# EAGLE library part ESD_5 (library GaN_Fet_ESC_V0.2)
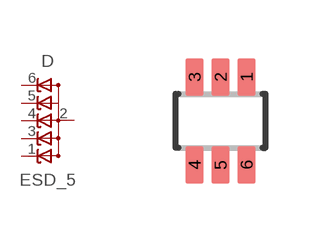
[diagram p1: symbol with the pads of SC-70-6; footprint SC-70-6]

Designator prefix D

## ESD_5  [SC-70-6]
1  1  pas
2  2  pas
3  3  pas
4  4  pas
5  5  pas
6  6  pas

## Footprint SC-70-6 (pad centres in mm)
smd 0.45 x 0.95: 1 0.65,1.1; 2 0,1.1; 3 -0.65,1.1; 4 -0.65,-1.1; 5 0,-1.1; 6 0.65,-1.1